# EAGLE library part M5-PQFP240 (library amd-mach)
AMD MACH SERIES
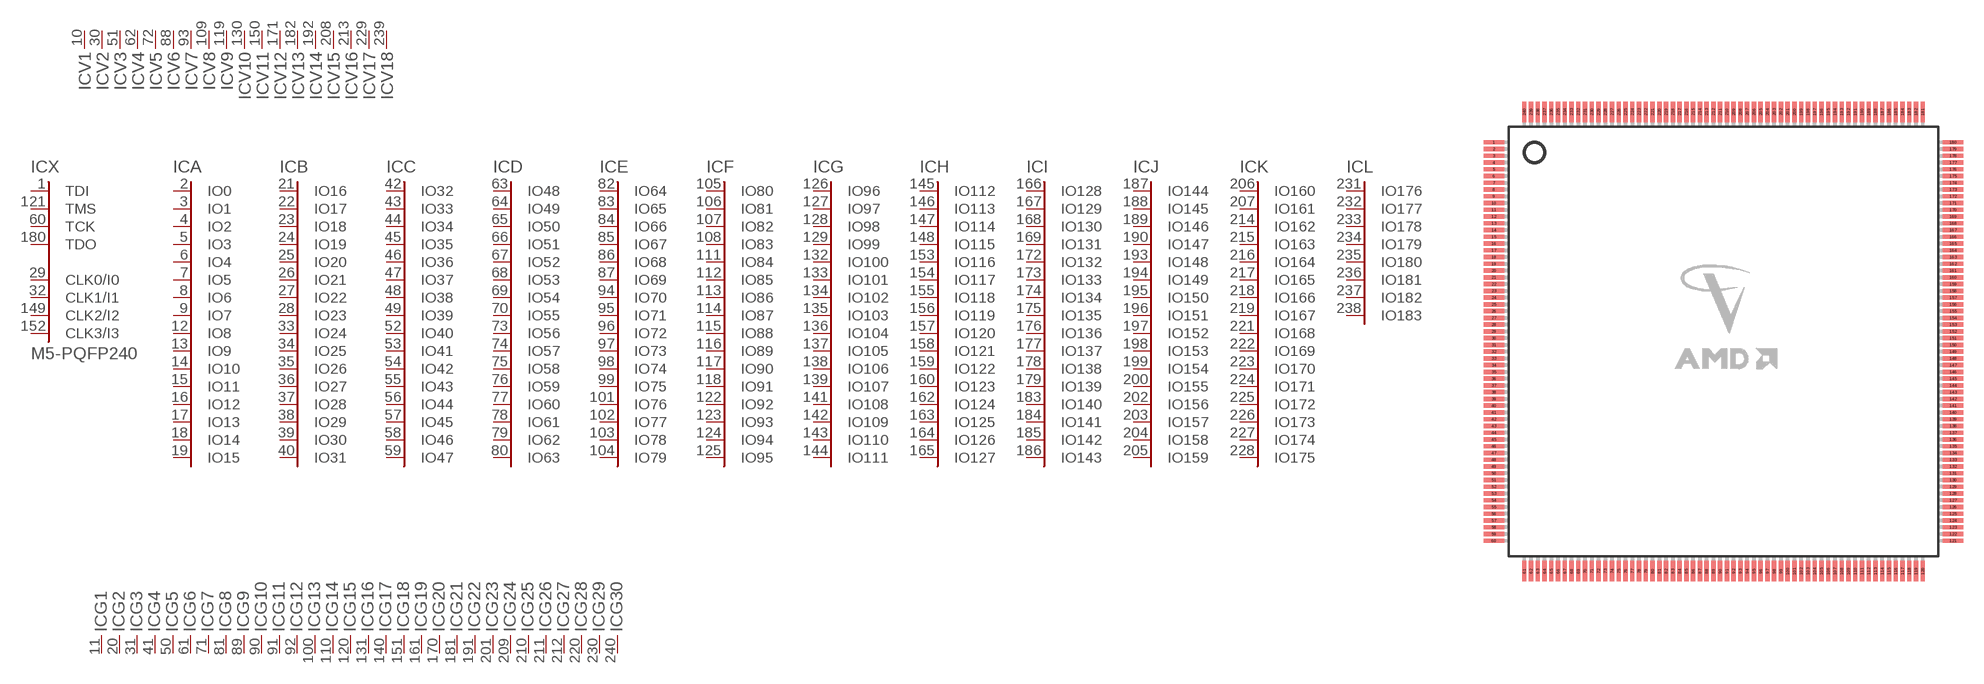
[diagram p16: symbol with the pads of PQFP240; footprint PQFP240]

Designator prefix IC; gates X=M5-CTRL A=IO15 B=IO31 C=IO47 D=IO63 E=IO79 F=IO95 G=IO111 H=IO127 I=IO143 J=IO159 G1=GND G2=GND G3=GND G4=GND G5=GND G6=GND G7=GND G8=GND G9=GND G10=GND G11=GND G12=GND G13=GND G14=GND G15=GND G16=GND G17=GND G18=GND G19=GND G20=GND G21=GND G22=GND G23=GND G24=GND G25=GND G26=GND V1=VCC V2=VCC V3=VCC V4=VCC V5=VCC V6=VCC V7=VCC V8=VCC V9=VCC V10=VCC V11=VCC V12=VCC V13=VCC V14=VCC V15=VCC V16=VCC V17=VCC V18=VCC G27=GND G28=GND G29=GND G30=GND K=IO175 L=IO183

## M5-PQFP240 (OC_FARNELL: unknown; OC_NEWARK: unknown)  [PQFP240]
1  X:TDI  in
2  A:IO0
3  A:IO1
4  A:IO2
5  A:IO3
6  A:IO4
7  A:IO5
8  A:IO6
9  A:IO7
10  V1:VCC  pwr
11  G1:GND  pwr
12  A:IO8
13  A:IO9
14  A:IO10
15  A:IO11
16  A:IO12
17  A:IO13
18  A:IO14
19  A:IO15
20  G2:GND  pwr
21  B:IO16
22  B:IO17
23  B:IO18
24  B:IO19
25  B:IO20
26  B:IO21
27  B:IO22
28  B:IO23
29  X:CLK0/I0  in
30  V2:VCC  pwr
31  G3:GND  pwr
32  X:CLK1/I1  in
33  B:IO24
34  B:IO25
35  B:IO26
36  B:IO27
37  B:IO28
38  B:IO29
39  B:IO30
40  B:IO31
41  G4:GND  pwr
42  C:IO32
43  C:IO33
44  C:IO34
45  C:IO35
46  C:IO36
47  C:IO37
48  C:IO38
49  C:IO39
50  G5:GND  pwr
51  V3:VCC  pwr
52  C:IO40
53  C:IO41
54  C:IO42
55  C:IO43
56  C:IO44
57  C:IO45
58  C:IO46
59  C:IO47
60  X:TCK  in
61  G6:GND  pwr
62  V4:VCC  pwr
63  D:IO48
64  D:IO49
65  D:IO50
66  D:IO51
67  D:IO52
68  D:IO53
69  D:IO54
70  D:IO55
71  G7:GND  pwr
72  V5:VCC  pwr
73  D:IO56
74  D:IO57
75  D:IO58
76  D:IO59
77  D:IO60
78  D:IO61
79  D:IO62
80  D:IO63
81  G8:GND  pwr
82  E:IO64
83  E:IO65
84  E:IO66
85  E:IO67
86  E:IO68
87  E:IO69
88  V6:VCC  pwr
89  G9:GND  pwr
90  G10:GND  pwr
91  G11:GND  pwr
92  G12:GND  pwr
93  V7:VCC  pwr
94  E:IO70
95  E:IO71
96  E:IO72
97  E:IO73
98  E:IO74
99  E:IO75
100  G13:GND  pwr
101  E:IO76
102  E:IO77
103  E:IO78
104  E:IO79
105  F:IO80
106  F:IO81
107  F:IO82
108  F:IO83
109  V8:VCC  pwr
110  G14:GND  pwr
111  F:IO84
112  F:IO85
113  F:IO86
114  F:IO87
115  F:IO88
116  F:IO89
117  F:IO90
118  F:IO91
119  V9:VCC  pwr
120  G15:GND  pwr
121  X:TMS  in
122  F:IO92
123  F:IO93
124  F:IO94
125  F:IO95
126  G:IO96
127  G:IO97
128  G:IO98
129  G:IO99
130  V10:VCC  pwr
131  G16:GND  pwr
132  G:IO100
133  G:IO101
134  G:IO102
135  G:IO103
136  G:IO104
137  G:IO105
138  G:IO106
139  G:IO107
140  G17:GND  pwr
141  G:IO108
142  G:IO109
143  G:IO110
144  G:IO111
145  H:IO112
146  H:IO113
147  H:IO114
148  H:IO115
149  X:CLK2/I2  in
150  V11:VCC  pwr
151  G18:GND  pwr
152  X:CLK3/I3  in
153  H:IO116
154  H:IO117
155  H:IO118
156  H:IO119
157  H:IO120
158  H:IO121
159  H:IO122
160  H:IO123
161  G19:GND  pwr
162  H:IO124
163  H:IO125
164  H:IO126
165  H:IO127
166  I:IO128
167  I:IO129
168  I:IO130
169  I:IO131
170  G20:GND  pwr
171  V12:VCC  pwr
172  I:IO132
173  I:IO133
174  I:IO134
175  I:IO135
176  I:IO136
177  I:IO137
178  I:IO138
179  I:IO139
180  X:TDO  in
181  G21:GND  pwr
182  V13:VCC  pwr
183  I:IO140
184  I:IO141
185  I:IO142
186  I:IO143
187  J:IO144
188  J:IO145
189  J:IO146
190  J:IO147
191  G22:GND  pwr
192  V14:VCC  pwr
193  J:IO148
194  J:IO149
195  J:IO150
196  J:IO151
197  J:IO152
198  J:IO153
199  J:IO154
200  J:IO155
201  G23:GND  pwr
202  J:IO156
203  J:IO157
204  J:IO158
205  J:IO159
206  K:IO160
207  K:IO161
208  V15:VCC  pwr
209  G24:GND  pwr
210  G25:GND  pwr
211  G26:GND  pwr
212  G27:GND  pwr
213  V16:VCC  pwr
214  K:IO162
215  K:IO163
216  K:IO164
217  K:IO165
218  K:IO166
219  K:IO167
220  G28:GND  pwr
221  K:IO168
222  K:IO169
223  K:IO170
224  K:IO171
225  K:IO172
226  K:IO173
227  K:IO174
228  K:IO175
229  V17:VCC  pwr
230  G29:GND  pwr
231  L:IO176
232  L:IO177
233  L:IO178
234  L:IO179
235  L:IO180
236  L:IO181
237  L:IO182
238  L:IO183
239  V18:VCC  pwr
240  G30:GND  pwr

## Footprint PQFP240 (pad centres in mm)
PLASTIC QUAD FLAT PACK
smd 1.5 x 0.32: 1 -17,14.75; 2 -17,14.25; 3 -17,13.75; 4 -17,13.25; 5 -17,12.75; 6 -17,12.25; 7 -17,11.75; 8 -17,11.25; 9 -17,10.75; 10 -17,10.25; 11 -17,9.75; 12 -17,9.25; 13 -17,8.75; 14 -17,8.25; 15 -17,7.75; 16 -17,7.25; 17 -17,6.75; 18 -17,6.25; 19 -17,5.75; 20 -17,5.25; 21 -17,4.75; 22 -17,4.25; 23 -17,3.75; 24 -17,3.25; 25 -17,2.75; 26 -17,2.25; 27 -17,1.75; 28 -17,1.25; 29 -17,0.75; 30 -17,0.25; 31 -17,-0.25; 32 -17,-0.75; 33 -17,-1.25; 34 -17,-1.75; 35 -17,-2.25; 36 -17,-2.75; 37 -17,-3.25; 38 -17,-3.75; 39 -17,-4.25; 40 -17,-4.75; 41 -17,-5.25; 42 -17,-5.75; 43 -17,-6.25; 44 -17,-6.75; 45 -17,-7.25; 46 -17,-7.75; 47 -17,-8.25; 48 -17,-8.75; 49 -17,-9.25; 50 -17,-9.75; 51 -17,-10.25; 52 -17,-10.75; 53 -17,-11.25; 54 -17,-11.75; 55 -17,-12.25; 56 -17,-12.75; 57 -17,-13.25; 58 -17,-13.75; 59 -17,-14.25; 60 -17,-14.75; 121 17,-14.75; 122 17,-14.25; 123 17,-13.75; 124 17,-13.25; 125 17,-12.75; 126 17,-12.25; 127 17,-11.75; 128 17,-11.25; 129 17,-10.75; 130 17,-10.25; 131 17,-9.75; 132 17,-9.25; 133 17,-8.75; 134 17,-8.25; 135 17,-7.75; 136 17,-7.25; 137 17,-6.75; 138 17,-6.25; 139 17,-5.75; 140 17,-5.25; 141 17,-4.75; 142 17,-4.25; 143 17,-3.75; 144 17,-3.25; 145 17,-2.75; 146 17,-2.25; 147 17,-1.75; 148 17,-1.25; 149 17,-0.75; 150 17,-0.25; 151 17,0.25; 152 17,0.75; 153 17,1.25; 154 17,1.75; 155 17,2.25; 156 17,2.75; 157 17,3.25; 158 17,3.75; 159 17,4.25; 160 17,4.75; 161 17,5.25; 162 17,5.75; 163 17,6.25; 164 17,6.75; 165 17,7.25; 166 17,7.75; 167 17,8.25; 168 17,8.75; 169 17,9.25; 170 17,9.75; 171 17,10.25; 172 17,10.75; 173 17,11.25; 174 17,11.75; 175 17,12.25; 176 17,12.75; 177 17,13.25; 178 17,13.75; 179 17,14.25; 180 17,14.75
smd 0.32 x 1.5: 61 -14.75,-17; 62 -14.25,-17; 63 -13.75,-17; 64 -13.25,-17; 65 -12.75,-17; 66 -12.25,-17; 67 -11.75,-17; 68 -11.25,-17; 69 -10.75,-17; 70 -10.25,-17; 71 -9.75,-17; 72 -9.25,-17; 73 -8.75,-17; 74 -8.25,-17; 75 -7.75,-17; 76 -7.25,-17; 77 -6.75,-17; 78 -6.25,-17; 79 -5.75,-17; 80 -5.25,-17; 81 -4.75,-17; 82 -4.25,-17; 83 -3.75,-17; 84 -3.25,-17; 85 -2.75,-17; 86 -2.25,-17; 87 -1.75,-17; 88 -1.25,-17; 89 -0.75,-17; 90 -0.25,-17; 91 0.25,-17; 92 0.75,-17; 93 1.25,-17; 94 1.75,-17; 95 2.25,-17; 96 2.75,-17; 97 3.25,-17; 98 3.75,-17; 99 4.25,-17; 100 4.75,-17; 101 5.25,-17; 102 5.75,-17; 103 6.25,-17; 104 6.75,-17; 105 7.25,-17; 106 7.75,-17; 107 8.25,-17; 108 8.75,-17; 109 9.25,-17; 110 9.75,-17; 111 10.25,-17; 112 10.75,-17; 113 11.25,-17; 114 11.75,-17; 115 12.25,-17; 116 12.75,-17; 117 13.25,-17; 118 13.75,-17; 119 14.25,-17; 120 14.75,-17; 181 14.75,17; 182 14.25,17; 183 13.75,17; 184 13.25,17; 185 12.75,17; 186 12.25,17; 187 11.75,17; 188 11.25,17; 189 10.75,17; 190 10.25,17; 191 9.75,17; 192 9.25,17; 193 8.75,17; 194 8.25,17; 195 7.75,17; 196 7.25,17; 197 6.75,17; 198 6.25,17; 199 5.75,17; 200 5.25,17; 201 4.75,17; 202 4.25,17; 203 3.75,17; 204 3.25,17; 205 2.75,17; 206 2.25,17; 207 1.75,17; 208 1.25,17; 209 0.75,17; 210 0.25,17; 211 -0.25,17; 212 -0.75,17; 213 -1.25,17; 214 -1.75,17; 215 -2.25,17; 216 -2.75,17; 217 -3.25,17; 218 -3.75,17; 219 -4.25,17; 220 -4.75,17; 221 -5.25,17; 222 -5.75,17; 223 -6.25,17; 224 -6.75,17; 225 -7.25,17; 226 -7.75,17; 227 -8.25,17; 228 -8.75,17; 229 -9.25,17; 230 -9.75,17; 231 -10.25,17; 232 -10.75,17; 233 -11.25,17; 234 -11.75,17; 235 -12.25,17; 236 -12.75,17; 237 -13.25,17; 238 -13.75,17; 239 -14.25,17; 240 -14.75,17